# EAGLE library part STM32F030F4P6TR (library Messstation)
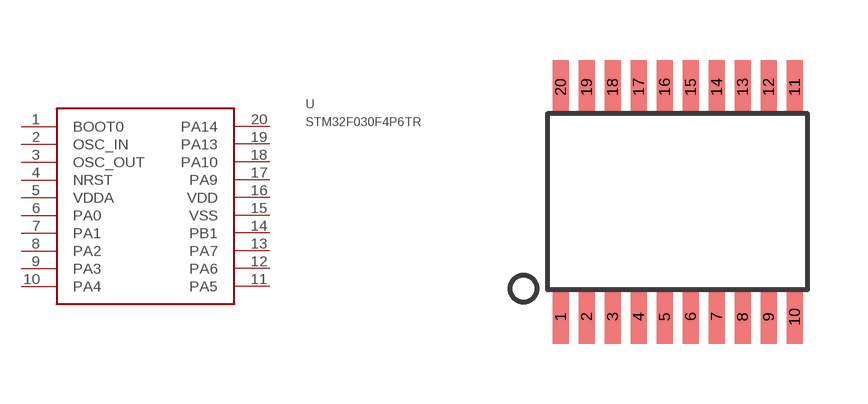
[diagram p3: symbol with the pads of TSSOP20; footprint TSSOP20]

Designator prefix U

## STM32F030F4P6TR  [TSSOP20]
1  BOOT0
2  OSC_IN
3  OSC_OUT
4  NRST
5  VDDA
6  PA0
7  PA1
8  PA2
9  PA3
10  PA4
11  PA5
12  PA6
13  PA7
14  PB1
15  VSS
16  VDD
17  PA9
18  PA10
19  PA13
20  PA14

## Footprint TSSOP20 (pad centres in mm)
smd 0.4 x 1.35: 1 0,0; 2 0.65,0; 3 1.3,0; 4 1.95,0; 5 2.6,0; 6 3.25,0; 7 3.9,0; 8 4.55,0; 9 5.2,0; 10 5.85,0; 11 5.85,5.75; 12 5.2,5.75; 13 4.55,5.75; 14 3.9,5.75; 15 3.25,5.75; 16 2.6,5.75; 17 1.95,5.75; 18 1.3,5.75; 19 0.65,5.75; 20 0,5.75